# Altium footprint library VCO_4_50x32.PcbLib: 1 footprints
Each footprint in its own frame and in the unit in brackets; x right, y up, seen from the top. Pads: shape width x height; smd on the part's side, far side on the other; paste and mask are expansions set on the pad; w line width, h text height; cw(c..) or ccw(c..) is an arc to the next point about the centre after c.
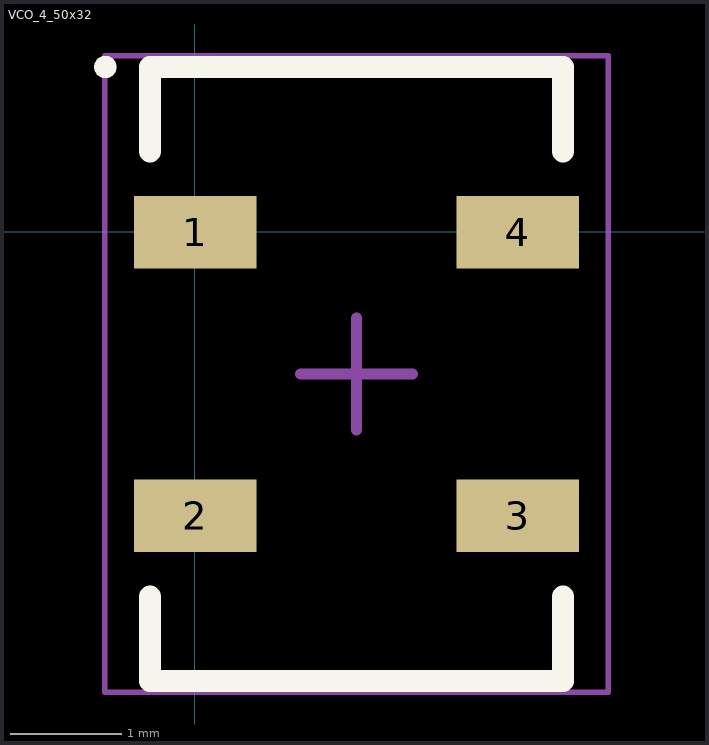
[diagram p0: the footprint, top view; thin cyan lines are the x and y axes]

## VCO_4_50x32 [mm] "SON, 4-Leads, Body 5,00x3,20mm, Pitch 1,27mm, IPC Medium Density"
height 1.2
pads (4):
  rect 1.1x0.65 smd: 1(0.005,-0.005) 2(0.005,-2.545) 3(2.895,-2.545) 4(2.895,-0.005)
Top Overlay:
  circle w0.1: c-0.8,1.475 r0.05
  lines w0.2: -0.4,-3.27 -0.4,-4.025 3.3,-4.025 3.3,-3.27 ; -0.4,0.72 -0.4,1.475 3.3,1.475 3.3,0.72
Mechanical 15:
  lines w0.05: -0.805,-4.125 3.705,-4.125 3.705,1.575 -0.805,1.575 -0.805,-4.125
  lines w0.1: 0.95,-1.275 1.95,-1.275 ; 1.45,-1.775 1.45,-0.775
3D body "VCO_6_50x32.step": height 1.2, standoff 0, extent -0.25,-3.875 3.15,1.325